# Altium schematic symbol library mcu_board.SCHLIB: 9 symbols
Pins are listed as number, name and electrical type; pins without a type are passive.

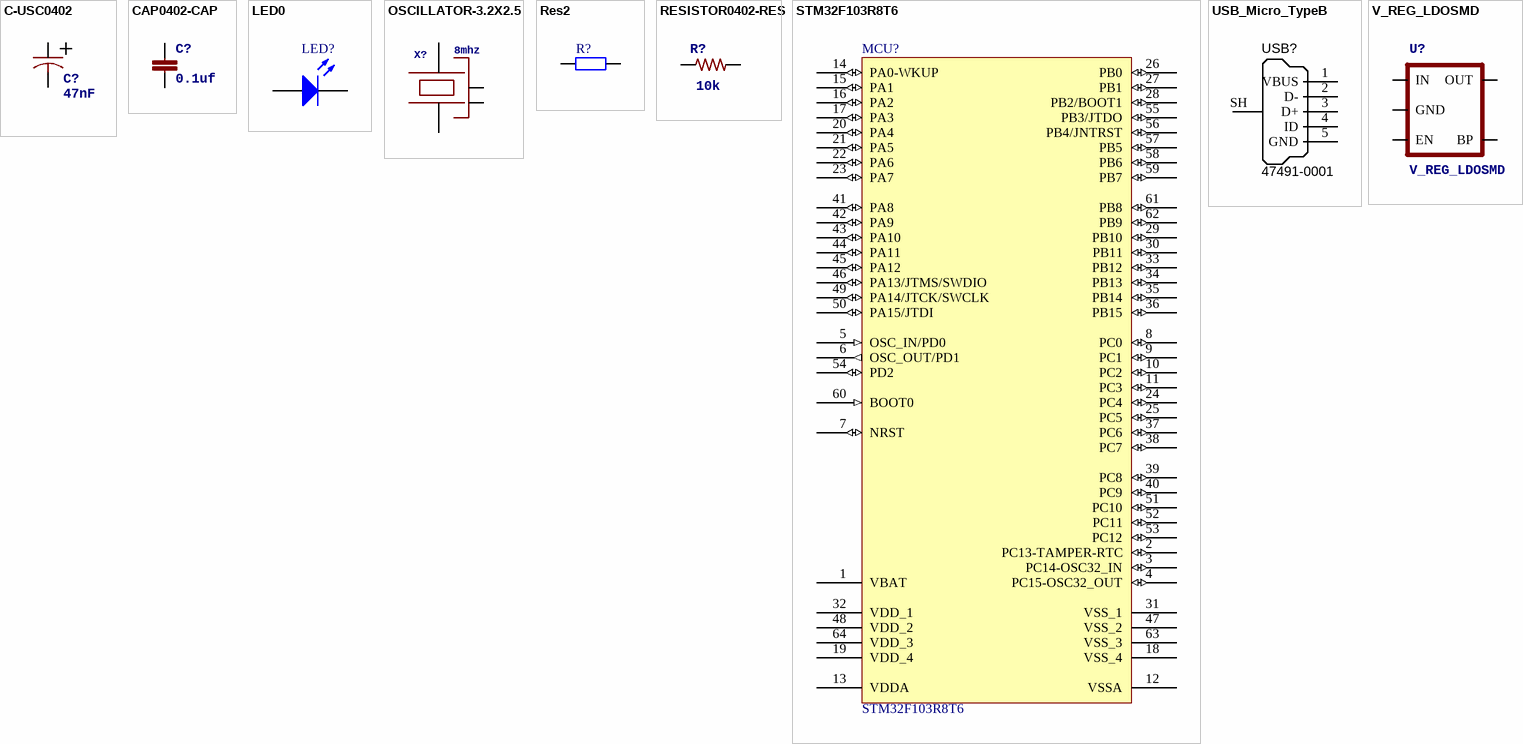
[diagram p0: symbols C-USC0402 to V_REG_LDOSMD]

## C-USC0402
designator C?, comment 47nF
电容
footprint C0402
footprint 0402
footprint 0603
footprint 0805
footprint HONOR_63X77
pins: 1, 2

## CAP0402-CAP
designator C?, comment 0.1uf
电容; PARTNO: CC0402ZRY5V7BB104
footprint 0402-CAP
footprint 0402
footprint 0603
footprint 0805
pins: 1, 2

## LED0
designator LED?  (value not drawn)
LED; Published: 8-Jun-2000; LatestRevisionDate: 08-Jul-2005; LatestRevisionNote: Mech Layer 1 removed.; PackageReference: LED-0; Publisher: Altium Limited; PackageDescription: LED; 2 Leads
footprint 0603 (0603-RES)
simulation model LED0 (Diode)
pins: 1 A, 2 K

## OSCILLATOR-3.2X2.5
designator X?, comment 8mhz
Crystal Oscillator in 3.2x2.5 SMD
footprint OSCILLATOR-3.2X2.5
pins: 1, 2 NC_2 (oe), 3, 4 NC_4 (oe)

## Res2
designator R?
电阻; Value: 0Ohm; Published: 8-Jun-2000; LatestRevisionDate: 17-Jul-2002; LatestRevisionNote: Re-released for DXP Platform.; PackageReference: AXIAL-0.4; Publisher: Altium Limited; PackageDescription: Axial Device, Thru-Hole; 2 Leads; 0.4 in Pin Spacing
footprint 0603
simulation model RESISTOR (Resistor)
signal-integrity model Res
footprint 0402
pins: 1, 2

## RESISTOR0402-RES
designator R?, comment 10k
电阻
footprint 0402-RES
footprint 0402
footprint 0603
pins: 1, 2

## STM32F103R8T6
designator MCU?
STM32 ARM-based 32-bit MCU with 64 Kbytes Flash, 64-pin LQFP, Industrial Temperature; Published: *; DatasheetVersion: *; PackageVersion: *; PackageReference: *; Publisher: *; PackageDescription: *; ComponentLink1Description: *; ComponentLink1URL: *; ComponentLink2Description: *; ComponentLink2URL: *
footprint LQFP64_N
footprint LQFP64_L
footprint LQFP64_M
pins: 1 VBAT (power), 2 PC13-TAMPER-RTC (io), 3 PC14-OSC32_IN (io), 4 PC15-OSC32_OUT (io), 5 OSC_IN/PD0 (in), 6 OSC_OUT/PD1 (out), 7 NRST (io), 8 PC0 (io), 9 PC1 (io), 10 PC2 (io), 11 PC3 (io), 12 VSSA (power), 13 VDDA (power), 14 PA0-WKUP (io), 15 PA1 (io), 16 PA2 (io), 17 PA3 (io), 18 VSS_4 (power), 19 VDD_4 (power), 20 PA4 (io), 21 PA5 (io), 22 PA6 (io), 23 PA7 (io), 24 PC4 (io), 25 PC5 (io), 26 PB0 (io), 27 PB1 (io), 28 PB2/BOOT1 (io), 29 PB10 (io), 30 PB11 (io), 31 VSS_1 (power), 32 VDD_1 (power), 33 PB12 (io), 34 PB13 (io), 35 PB14 (io), 36 PB15 (io), 37 PC6 (io), 38 PC7 (io), 39 PC8 (io), 40 PC9 (io), 41 PA8 (io), 42 PA9 (io), 43 PA10 (io), 44 PA11 (io), 45 PA12 (io), 46 PA13/JTMS/SWDIO (io), 47 VSS_2 (power), 48 VDD_2 (power), 49 PA14/JTCK/SWCLK (io), 50 PA15/JTDI (io), 51 PC10 (io), 52 PC11 (io), 53 PC12 (io), 54 PD2 (io), 55 PB3/JTDO (io), 56 PB4/JNTRST (io), 57 PB5 (io), 58 PB6 (io), 59 PB7 (io), 60 BOOT0 (in), 61 PB8 (io), 62 PB9 (io), 63 VSS_3 (power), 64 VDD_3 (power)
2 alternate drawings of the same symbol

## USB_Micro_TypeB
designator USB?, comment Manufacturer Part Number 1: 47491-0001  (hidden comment: USB Micro Type B)
Connector SMD USB Micro Type B middle mount; Manufacturer 1: Molex Inc; SCDType: undef; Package / Case: SMD; Supplier 1: Digi-Key; Supplier Part Number 1: WM17142CT-ND
footprint USB
footprint MOLEX-47346-0001
pins: 1 VBUS, 2 D-, 3 D+, 4 ID, 5 GND, SH Shell

## V_REG_LDOSMD
designator U?
LDO; PARTNO: MIC5207-3.3YM5
footprint SOT23-5
pins: 1 IN, 2 GND, 3 EN, 4 BP, 5 OUT